# Altium schematic symbol library Signetik-passives.SchLib: 477 symbols (part 1 of 3)
Pins are listed as number, name and electrical type; pins without a type are passive.

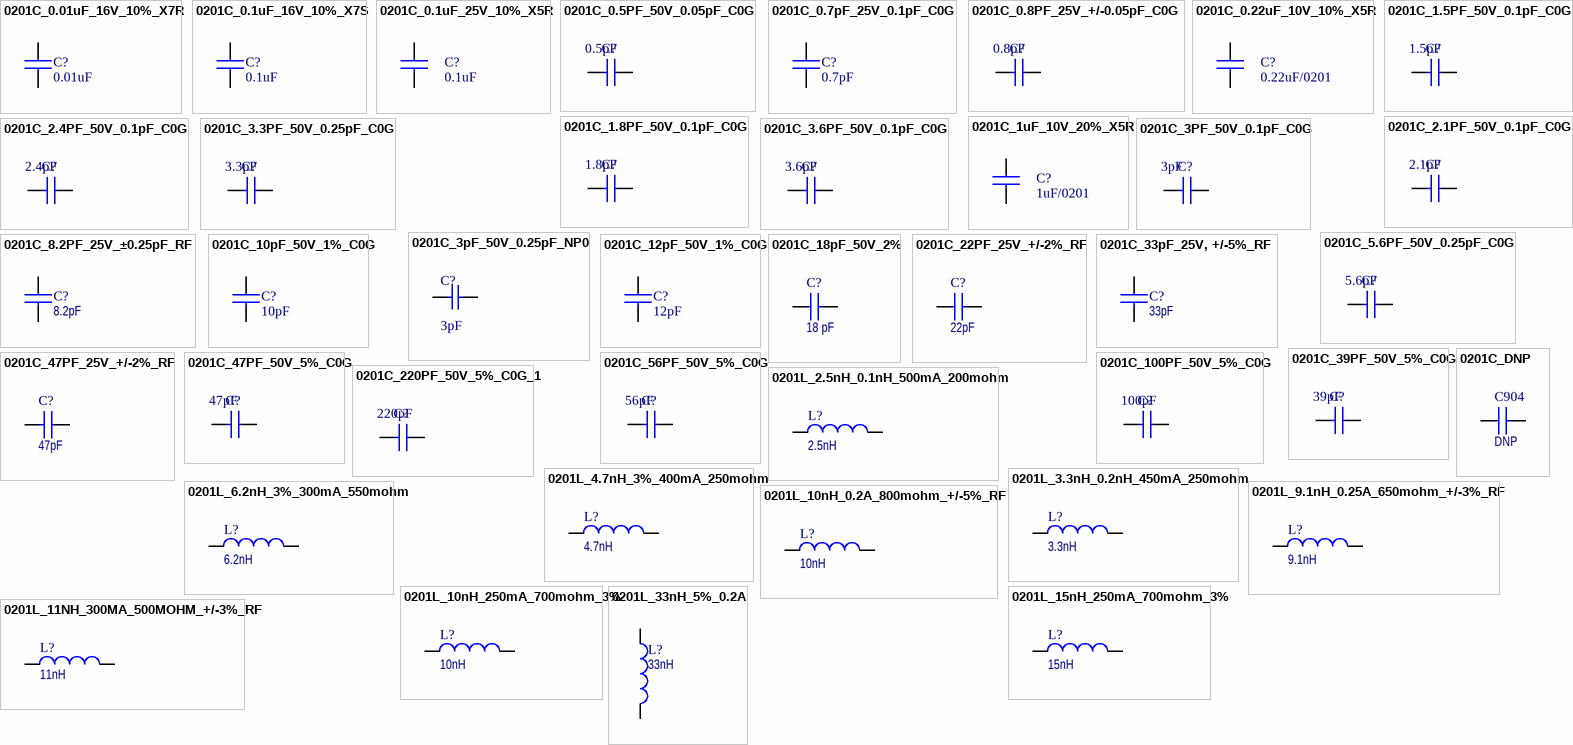
[diagram p0: symbols 0201C_0.01uF_16V_10%_X7R to 0201L_33nH_5%_0.2A]

## 0201C_0.01uF_16V_10%_X7R
designator C?, comment 0.01uF
Ceramic capacitor 0.01uF 16V 10% X7R 0201; MPN: CC0201KRX7R7BB103; Tolerance: +/-10%; TemperatureRange: -55 to +125 deg; Mfg: Yageo; Value: 0.01uF
footprint 0201_CAP_NP (0201 (0603 metric) SMD Capacitor)
pins: 1, 2

## 0201C_0.1uF_16V_10%_X7S
designator C?, comment 0.1uF
Ceramic capacitor 0.1uF 16V 10% X7S 0201; MPN: GRM033C71C104KE14D; Tolerance: +/-10%; TemperatureRange: -55 to +125 deg; Mfg: Murata; Value: 0.1uF
footprint 0201_CAP_NP (0201 (0603 metric) SMD Capacitor)
pins: 1, 2

## 0201C_0.1uF_25V_10%_X5R
designator C?, comment 0.1uF
Ceramic capacitor 0.1uF 25V 10% X5R 0201; MPN: GRM033R61E104ME14D; Tolerance: +/-10%; TemperatureRange: -55 to +85 deg; Mfg: Murata; Value: 0.1uF
footprint 0201_CAP_NP (0201 (0603 metric) SMD Capacitor)
pins: 1, 2

## 0201C_0.5PF_50V_0.05pF_C0G
designator C?, comment 0.5pF
0.5pF ±0.05pF 50V Ceramic Capacitor C0G, NP0 0201 (0603 Metric); MPN: GJM0335C1HR50WB01D; Tolerance: +/-0.1pF; TemperatureRange: -55 to +125 deg; Mfg: Murata; Value: 0.5pF
footprint 0201_CAP_NP (0201 (0603 metric) SMD Capacitor)
pins: 1, 2

## 0201C_0.7pF_25V_0.1pF_C0G
designator C?, comment 0.7pF
CAP CER 0.7PF 25V C0G/NP0 0201; MPN: GJM0335C1ER70BB01D; Tolerance: +/-1%; TemperatureRange: -55 to +125 deg; Mfg: Murata; Value: 0.7pF
footprint 0201_CAP_NP (0201 (0603 metric) SMD Capacitor)
pins: 1, 2

## 0201C_0.8PF_25V_+/-0.05pF_C0G
designator C?, comment 0.8pF
0.8pF ±0.05pF 25V Ceramic Capacitor C0G, NP0 0201 (0603 Metric); MPN: GJM0335C1ER80WB01D; Tolerance: +/-0.05pF; TemperatureRange: -55 to +125 deg; Mfg: Murata; Value: 0.8pF
footprint 0201_CAP_NP (0201 (0603 metric) SMD Capacitor)
pins: 1, 2

## 0201C_0.22uF_10V_10%_X5R
designator C?, comment 0.22uF/0201
CAP CER 0.22UF 10V X5R 0201; MPN: GRM033R61A224KE90D; Tolerance: +/-10%; TemperatureRange: -55 to +85 deg; Mfg: Murata; Value: 0.22uF/0201
footprint 0201_CAP_NP (0201 (0603 metric) SMD Capacitor)
pins: 1, 2

## 0201C_1.5PF_50V_0.1pF_C0G
designator C?, comment 1.5pF
CAP CER 1.5PF 50V +/-0.1pF C0G 0201; MPN: GJM0335C1H1R5BB01D; TemperatureRange: -55 to +125 deg; Mfg: Murata; Tolerance: +/-0.1pF; Value: 1.5pF
footprint 0201_CAP_NP (0201 (0603 metric) SMD Capacitor)
pins: 1, 2

## 0201C_1.8PF_50V_0.1pF_C0G
designator C?, comment 1.8pF
CAP CER 1.8PF 50V +/-0.1pF C0G 0201; MPN: GRM0335C1H1R8BA01D; TemperatureRange: -55 to +125 deg; Mfg: Murata; Tolerance: +/-0.1pF; Value: 1.8pF
footprint 0201_CAP_RF
pins: 1, 2

## 0201C_1uF_10V_20%_X5R
designator C?, comment 1uF/0201
0201 1 uF 10 V ±20% Tolerance X6S SMT Multilayer Ceramic Chip Capacitor; MPN: GRM033C81A105ME05D; Tolerance: +/-10%; TemperatureRange: -55 to +85 deg; Mfg: Murata; Value: 1uF/0201
footprint 0201_CAP_RF
pins: 1, 2

## 0201C_2.1PF_50V_0.1pF_C0G
designator C?, comment 2.1pF
CAP CER 2.1PF 50V +/-0.1pF C0G 0201; MPN: GJM0335C1H2R1BB01D; TemperatureRange: -55 to +125 deg; Mfg: Murata; Tolerance: +/-0.1pF; Value: 2.1pF
footprint 0201_CAP_NP (0201 (0603 metric) SMD Capacitor)
pins: 1, 2

## 0201C_2.4PF_50V_0.1pF_C0G
designator C?, comment 2.4pF
CAP CER 2.4PF 50V +/-0.1pF C0G 0201; MPN: GRM0335C1H2R4BA01D; TemperatureRange: -55 to +125 deg; Mfg: Murata; Tolerance: +/-0.1pF; Value: 2.4pF
footprint 0201_CAP_NP (0201 (0603 metric) SMD Capacitor)
pins: 1, 2

## 0201C_3.3PF_50V_0.25pF_C0G
designator C?, comment 3.3pF
CAP CER 3.3PF 25V C0G/NP0 0201; MPN: GRM0335C1E3R3CA01D; Tolerance: +/-0.1pF; TemperatureRange: -55 to +125 deg; Mfg: Murata; Value: 3.3pF
footprint 0201_CAP_RF
pins: 1, 2

## 0201C_3.6PF_50V_0.1pF_C0G
designator C?, comment 3.6pF
CAP CER 3.6PF 50V +/-0.1pF C0G 0201; MPN: GRM0335C1H3R6BA01D; TemperatureRange: -55 to +125 deg; Mfg: Murata; Tolerance: +/-0.1pF; Value: 3.6pF
footprint 0201_CAP_NP (0201 (0603 metric) SMD Capacitor)
pins: 1, 2

## 0201C_3PF_50V_0.1pF_C0G
designator C?, comment 3pF
CAP CER 3PF 50V +/-0.1pF C0G 0201; MPN: GRM0335C1H3R0BA01D; TemperatureRange: -55 to +125 deg; Mfg: Murata; Tolerance: +/-0.1pF; Value: 3pF
footprint 0201_CAP_RF
pins: 1, 2

## 0201C_3pF_50V_0.25pF_NP0
designator C?, comment 3pF
CAP CER 3PF 50V NP0 0201; MPN: GRM0335C1H3R0CA01D; Mfg: Murata; Unit Cost, Qty 1: $0.10; Unit Cost, Qty 500: $0.013; Value: 3pF
footprint 0201_CAP_RF
pins: 1, 2

## 0201C_5.6PF_50V_0.25pF_C0G
designator C?, comment 5.6pF
CAP CER 5.6PF 50V +/-0.025pF C0G 0201; MPN: GRM0335C1H5R6CA01D; Tolerance: +/-0.25pF; TemperatureRange: -55 to +125 deg; Mfg: Murata; Value: 5.6pF
footprint 0201_CAP_RF
pins: 1, 2

## 0201C_8.2PF_25V_±0.25pF_RF
designator C?, comment value 8.2pF  (hidden comment: CAP-NONPOL)
CAP CER 8.2PF 25V NP0 0201 Â±0.25pF; PartGroup: Capacitors,Ceramic,SMD 0201; MPN: 250R05L8R2CV4T; AN: A01-0681; TemperatureRange: -55Â°C ~ 125Â°C; Mfg: Johanson Technology; ComponentStatus: 'Active (verified)'; Status: Active; Verified by: Lars Helge Mo; Verified date: 2005-12-15; Tolerance: Â±0.25pF; FootprintStatus: 'Active (Verified)'
footprint 0201_CAP_NP (0201 (0603 metric) SMD Capacitor)
pins: 1, 2

## 0201C_10pF_50V_1%_C0G
designator C?, comment 10pF
Ceramic capacitor 10pF 50V 1% C0G 0201; MPN: GRM0335C1H100FA01; Tolerance: +/-1%; TemperatureRange: -55 to +125 deg; Mfg: Murata; Value: 10pF
footprint 0201_CAP_NP (0201 (0603 metric) SMD Capacitor)
pins: 1, 2

## 0201C_12pF_50V_1%_C0G
designator C?, comment 12pF
Ceramic capacitor 12pF 50V 1% C0G 0201; MPN: GRM0335C1H120FA01D; Tolerance: +/-1%; TemperatureRange: -55 to +125 deg; Mfg: Murata; Value: 12pF
footprint 0201_CAP_NP (0201 (0603 metric) SMD Capacitor)
pins: 1, 2

## 0201C_18pF_50V_2%
designator C?, comment value 18 pF  (hidden comment: CAP-NONPOL)
CAP CER 18PF 50V C0G/NP0 0201  +/- 2%; PartGroup: Capacitors,Ceramic,SMD 0201; MPN: GRM0335C1H180GA01D; AN: A01-0854; Tolerance: +/- 2%; TemperatureRange: -55 to +125 degrees C; Mfg: Murata; ComponentStatus: 'Active (verified)'; Status: Active; Verified by: Lars Helge Mo; Verified date: 2005-12-15; Height: 0.300000011920929; FootprintStatus: 'Active (Verified)'
footprint 0201_CAP_NP (0201 (0603 metric) SMD Capacitor)
pins: 1, 2

## 0201C_22PF_25V_+/-2%_RF
designator C?, comment value 22pF  (hidden comment: RF, Microwave, High Frequency)
CAP CER 22PF 25V C0G/NP0 0201 +/-2%; PartGroup: Capacitors,Ceramic,SMD 0201; MPN: 250R05L220GV4T; AN: A01-0830; TemperatureRange: -55 to +125 deg; Mfg: Johanson Technology; ComponentStatus: 'Active (verified)'; Status: Active; Verified by: Lars Helge Mo; Verified date: 2005-12-15; Tolerance: +/-2%; Height: 0.0130000002682209; FootprintStatus: 'Active (Verified)'
footprint 0201_CAP_NP (0201 (0603 metric) SMD Capacitor)
pins: 1, 2

## 0201C_33pF_25V, +/-5%_RF
designator C?, comment value 33pF  (hidden comment: CAP-NONPOL)
Ceramic capacitor, SMD 0201, C0G/NP0, 25V, +/-5%; PartGroup: Capacitors,Ceramic,SMD 0201; MPN: 250R05L330JV4T; AN: A01-0831; Tolerance: +/-5\%; TemperatureRange: -55 to +125 deg; Mfg: Johanson Technology; ComponentStatus: 'Active (verified)'; Status: Active; Verified by: Lars Helge Mo; Verified date: 2005-12-15; Height: 0.0130000002682209; FootprintStatus: 'Active (Verified)'
footprint 0201_CAP_NP (0201 (0603 metric) SMD Capacitor)
pins: 1, 2

## 0201C_39PF_50V_5%_C0G
designator C?, comment 39pF
CAP CER 39PF 50V C0G 5% 0201; MPN: GRM0335C1H390JA01D; Tolerance: +/-5%; TemperatureRange: -55 to +125 deg; Mfg: Murata; Value: 39pF
footprint 0201_CAP_RF
pins: 1, 2

## 0201C_47PF_25V_+/-2%_RF
designator C?, comment value 47pF  (hidden comment: RF, Microwave, High Frequency)
CAP CER 47PF 25V C0G/NP0 0201 +/-2%; PartGroup: Capacitors,Ceramic,SMD 0201; MPN: 250R05L470GV4T; AN: A01-0825; TemperatureRange: -55 to +125 deg; Mfg: Johanson Technology; ComponentStatus: 'New (not verified)'; Status: Active; Verified by: Lars Helge Mo; Verified date: 2005-12-15; Tolerance: +/-2%; Height: 0.0130000002682209; FootprintStatus: 'Active (Verified)'
footprint 0201_CAP_NP (0201 (0603 metric) SMD Capacitor)
pins: 1, 2

## 0201C_47PF_50V_5%_C0G
designator C?, comment 47pF
CAP CER 47PF 50V C0G 5% 0201; MPN: GRM0335C1H470JA01D; Tolerance: +/-5%; TemperatureRange: -55 to +125 deg; Mfg: Murata; Value: 47pF
footprint 0201_CAP_NP (0201 (0603 metric) SMD Capacitor)
pins: 1, 2

## 0201C_56PF_50V_5%_C0G
designator C?, comment 56pF
CAP CER 56PF 50V C0G 5% 0201; MPN: GRM0335C1H560JA01D; Tolerance: +/-5%; TemperatureRange: -55 to +125 deg; Mfg: Murata; Value: 56pF
footprint 0201_CAP_NP (0201 (0603 metric) SMD Capacitor)
pins: 1, 2

## 0201C_100PF_50V_5%_C0G
designator C?, comment 100pF
CAP CER 100PF 50V C0G 5% 0201; MPN: GRM0335C1H101JA01D; Tolerance: +/-5%; TemperatureRange: -55 to +125 deg; Mfg: Murata; Value: 100pF
footprint 0201_CAP_NP (0201 (0603 metric) SMD Capacitor)
pins: 1, 2

## 0201C_220PF_50V_5%_C0G_1
designator C?, comment 220pF
CAP CER 220PF 50V C0G 5% 0201; MPN: GRM0335C1H221JA01D; Tolerance: +/-5%; TemperatureRange: -55 to +125 deg; Mfg: Murata; Value: 220pF
footprint 0201_CAP_NP (0201 (0603 metric) SMD Capacitor)
pins: 1, 2

## 0201C_DNP
designator C904, comment value DNP  (hidden comment: CAP-NONPOL)
Capacitor 0201 Do Not Fit; PartGroup: Capacitors,Ceramic,SMD 0201; AN: A01-0833; ComponentStatus: 'Active (verified)'; Populate: DNP; Status: Active; Verified by: Lars Helge Mo; Verified date: 2005-12-15; FootprintStatus: 'Active (Verified)'
footprint 0201_CAP_RF
pins: 1, 2

## 0201L_2.5nH_0.1nH_500mA_200mohm
designator L?, comment value 2.5nH  (hidden comment: INDUCTOR)
FIXED IND 2.5NH 500MA 200 MOHM; PartGroup: Inductors,RF,SMD 0201; MPN: LQP03TN2N5B02D; AN: A03-0303; Tolerance: +/-3%; TemperatureRange: -55 to +125C; Mfg: Murata Electronics; ComponentStatus: 'New (not verified)'; Verified date: 2006-01-30; Verified by: Lars Helge Mo; Status: Active; Height: 0.0130000002682209; FootprintStatus: 'Active (Verified)'
footprint 0201_IND_RF
pins: 1, 2

## 0201L_3.3nH_0.2nH_450mA_250mohm
designator L?, comment value 3.3nH  (hidden comment: INDUCTOR)
3.3nH Unshielded Thick Film Inductor 450mA 250mOhm Max 0201 (0603 Metric); PartGroup: Inductors,RF,SMD 0201; MPN: LQP03TN3N3C02D; AN: A03-0303; Tolerance: +/-3%; TemperatureRange: -55 to +125C; Mfg: Murata Electronics; ComponentStatus: 'New (not verified)'; Verified date: 2006-01-30; Verified by: Lars Helge Mo; Status: Active; Height: 0.0130000002682209; FootprintStatus: 'Active (Verified)'
footprint 0201_IND_RF
pins: 1, 2

## 0201L_4.7nH_3%_400mA_250mohm
designator L?, comment value 4.7nH  (hidden comment: INDUCTOR)
4.7nH Unshielded Thick Film Inductor 400mA 250mOhm Max 0201 (0603 Metric); PartGroup: Inductors,RF,SMD 0201; MPN: LQP03HQ4N7H02D; AN: A03-0303; Tolerance: +/-3%; TemperatureRange: -55 to +125C; Mfg: Murata Electronics; ComponentStatus: 'New (not verified)'; Verified date: 2006-01-30; Verified by: Lars Helge Mo; Status: Active; Height: 0.0130000002682209; FootprintStatus: 'Active (Verified)'
footprint 0201_IND_RF
pins: 1, 2

## 0201L_6.2nH_3%_300mA_550mohm
designator L?, comment value 6.2nH  (hidden comment: INDUCTOR)
6.2nH Unshielded Thick Film Inductor 300mA 550mOhm Max 0201 (0603 Metric); PartGroup: Inductors,RF,SMD 0201; MPN: LQP03TQ6N2H02D; AN: A03-0303; Tolerance: +/-3%; TemperatureRange: -55 to +125C; Mfg: Murata Electronics; ComponentStatus: 'New (not verified)'; Verified date: 2006-01-30; Verified by: Lars Helge Mo; Status: Active; Height: 0.0130000002682209; FootprintStatus: 'Active (Verified)'
footprint 0201_IND_RF
pins: 1, 2

## 0201L_9.1nH_0.25A_650mohm_+/-3%_RF
designator L?, comment value 9.1nH  (hidden comment: INDUCTOR)
FIXED IND 9.1NH 250MA 650 MOHM; PartGroup: Inductors,RF,SMD 0201; MPN: LQP03TQ9N1H02D; AN: A03-0303; Tolerance: +/-5%; TemperatureRange: -55 to +125C; Mfg: Murata Electronics; ComponentStatus: 'New (not verified)'; Verified date: 2006-01-30; Verified by: Lars Helge Mo; Status: Active; Height: 0.0130000002682209; FootprintStatus: 'Active (Verified)'
footprint 0201_IND_RF
pins: 1, 2

## 0201L_10nH_0.2A_800mohm_+/-5%_RF
designator L?, comment value 10nH  (hidden comment: INDUCTOR)
RF Inductor, 10nH, +/-5%, Irms=0.2A, Q=6@300Mhz, DCR=0.8(Max), SMD, 0201; PartGroup: Inductors,RF,SMD 0201; MPN: MLK0603L10NJT000; AN: A03-0303; TemperatureRange: -55 to +125C; Mfg: tdk; ComponentStatus: 'New (not verified)'; Verified date: 2006-01-30; Verified by: Lars Helge Mo; Status: Active; Tolerance: +/-5%; Height: 0.0130000002682209; FootprintStatus: 'Active (Verified)'
footprint 0201_IND_RF
pins: 1, 2

## 0201L_10nH_250mA_700mohm_3%
designator L?, comment value 10nH  (hidden comment: INDUCTOR)
FIXED IND 10NH 250MA 700 MOHM, +-3%, 0201; PartGroup: Inductors,RF,SMD 0201; MPN: LQP03TN10NH02D; AN: A03-0320; TemperatureRange: -55Â°C ~ 125Â°C; Mfg: Murata; ComponentStatus: 'Active (verified)'; Verified date: 2006-01-30; Verified by: Lars Helge Mo; Status: Active; Tolerance: +-3%; FootprintStatus: 'Active (Verified)'
footprint 0201_IND_RF
pins: 1, 2

## 0201L_11NH_300MA_500MOHM_+/-3%_RF
designator L?, comment value 11nH  (hidden comment: From Murata: LQP03HQ11NH02)
FIXED IND 11NH 300MA 500 MOHM  0201 +/-3%; PartGroup: Inductors,RF,SMD 0201; AN: A03-0311; Mfg: Murata; ComponentStatus: 'Active (verified)'; Verified date: 2006-01-30; Verified by: Lars Helge Mo; Status: Active; Tolerance: +/-3%; Height: 0.421999990940094; MPN: LQP03HQ11NH02; FootprintStatus: 'Active (Verified)'
footprint 0201_IND_RF
pins: 1, 2

## 0201L_15nH_250mA_700mohm_3%
designator L?, comment value 15nH  (hidden comment: INDUCTOR)
FIXED IND 15NH 250MA 700 MOHM,0201; PartGroup: Inductors,RF,SMD 0201; MPN: LQP03TN15NH02D; AN: A03-0320; Tolerance: +-3%; TemperatureRange: -55Â°C ~ 125Â°C; Mfg: Murata; ComponentStatus: 'Active (verified)'; Verified date: 2006-01-30; Verified by: Lars Helge Mo; Status: Active; FootprintStatus: 'Active (Verified)'
footprint 0201_IND_RF
pins: 1, 2

## 0201L_33nH_5%_0.2A
designator L?, comment value 33nH  (hidden comment: INDUCTOR)
RF Inductor, 33nH, +/-5%, Irms=0.2A, Q=5@100Mhz, DCR=2.3(Max), SMD, 0201; PartGroup: Inductors,RF,SMD 0201; MPN: L-05B33NJV6T; AN: A03-0304; TemperatureRange: -40 to +125C; Mfg: Johanson Technology; ComponentStatus: 'New (not verified)'; Verified date: 2006-01-30; Verified by: Lars Helge Mo; Status: Active; Tolerance: +/-5%; Height: 0.0130000002682209; FootprintStatus: 'Active (Verified)'
footprint 0201_IND_RF
pins: 1, 2

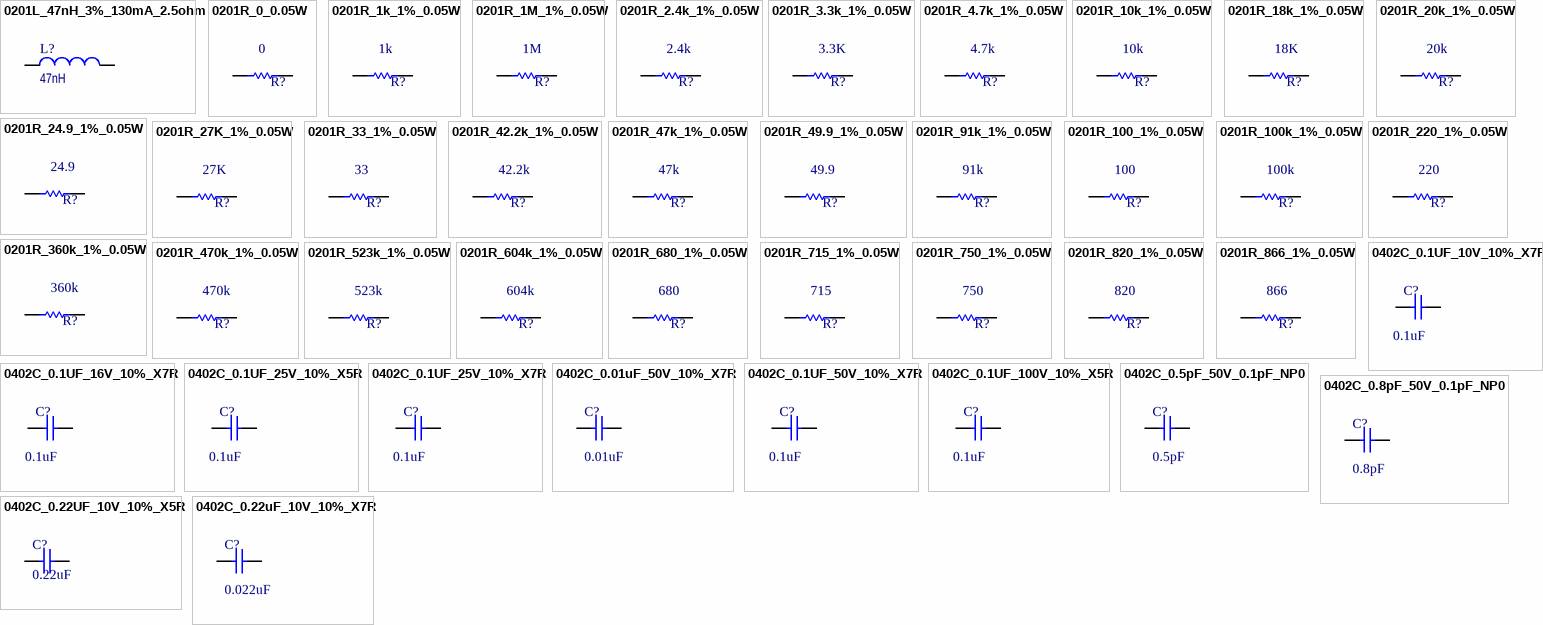
[diagram p1: symbols 0201L_47nH_3%_130mA_2.5ohm to 0402C_0.22uF_10V_10%_X7R]

## 0201L_47nH_3%_130mA_2.5ohm
designator L?, comment value 47nH  (hidden comment: INDUCTOR)
FIXED IND 47NH 130MA 2.5 OHM SMD; PartGroup: Inductors,RF,SMD 0201; MPN: LQP03HQ47NH02D; AN: A03-0303; Tolerance: +/-3%; TemperatureRange: -55 to +125C; Mfg: Murata Electronics; ComponentStatus: 'New (not verified)'; Verified date: 2006-01-30; Verified by: Lars Helge Mo; Status: Active; Height: 0.0130000002682209; FootprintStatus: 'Active (Verified)'
footprint 0201_IND_RF
pins: 1, 2

## 0201R_0_0.05W
designator R?, comment 0
Chip Resistor 0 Ohms 0.05W 0201; MPN: RC0201JR-070RL; Tolerance: +/-1%; TemperatureRange: -55 to +125C; Mfg: Yageo; Value: 0
footprint 0201_RES (0201 (0603 metric) SMD Resistor)
pins: 1, 2

## 0201R_1k_1%_0.05W
designator R?, comment 1k
Chip Resistor 1k Ohms ±1% 0.05W 0201; MPN: ERJ-1GNF1001C; Tolerance: +/-1%; TemperatureRange: -55 to +125C; Mfg: Panasonic; Value: 1k
footprint 0201_RES (0201 (0603 metric) SMD Resistor)
pins: 1, 2

## 0201R_1M_1%_0.05W
designator R?, comment 1M
Chip Resistor 1M Ohms ±1% 0.05W 0201; MPN: RC0201FR-071ML; Tolerance: +/-1%; TemperatureRange: -55 to +125C; Mfg: Yageo; Value: 1M
footprint 0201_RES (0201 (0603 metric) SMD Resistor)
pins: 1, 2

## 0201R_2.4k_1%_0.05W
designator R?, comment 2.4k
Chip Resistor 2.4k Ohms ±1% 0.05W 0201; MPN: ERJ-1GNF2401C; Tolerance: +/-1%; TemperatureRange: -55 to +125C; Mfg: Panasonic; Value: 2.4k
footprint 0201_RES (0201 (0603 metric) SMD Resistor)
pins: 1, 2

## 0201R_3.3k_1%_0.05W
designator R?, comment 3.3K
RES 3.3K OHM 1% 1/20W 0201; MPN: RC0201FR-073K3L; Tolerance: +/-1%; TemperatureRange: -55 to +125C; Mfg: Yageo; Value: 3.3K
footprint 0201_RES (0201 (0603 metric) SMD Resistor)
pins: 1, 2

## 0201R_4.7k_1%_0.05W
designator R?, comment 4.7k
Chip Resistor 4.7k Ohms ±1% 0.05W 0201; MPN: RMCF0201FT4K70; Tolerance: +/-1%; TemperatureRange: -55 to +125C; Mfg: Stackpole; Value: 4.7k
footprint 0201_RES (0201 (0603 metric) SMD Resistor)
pins: 1, 2

## 0201R_10k_1%_0.05W
designator R?, comment 10k
Chip Resistor 10k Ohms ±1% 0.05W 0201; MPN: RC0201FR-0710KL; Tolerance: +/-1%; TemperatureRange: -55 to +125C; Mfg: Yageo; Value: 10k
footprint 0201_RES (0201 (0603 metric) SMD Resistor)
pins: 1, 2

## 0201R_18k_1%_0.05W
designator R?, comment 18K
18 kOhms ±1% 0.05W, 1/20W Chip Resistor 0201 (0603 Metric) Thick Film; MPN: RC0201FR-0718KP; Tolerance: +/-1%; TemperatureRange: -55 to +125C; Mfg: Yageo; Value: 18K
footprint 0201_RES (0201 (0603 metric) SMD Resistor)
pins: 1, 2

## 0201R_20k_1%_0.05W
designator R?, comment 20k
Chip Resistor 20k Ohms ±1% 0.05W 0201; MPN: RC0201FR-0720KL; Tolerance: +/-1%; TemperatureRange: -55 to +125C; Mfg: Yageo; Value: 20k
footprint 0201_RES (0201 (0603 metric) SMD Resistor)
pins: 1, 2

## 0201R_24.9_1%_0.05W
designator R?, comment 24.9
24.9 Ohms ±1% 0.05W, 1/20W Chip Resistor 0201 (0603 Metric) Moisture Resistant Thick Film; MPN: RC0201FR-0724R9L; Tolerance: +/-1%; TemperatureRange: -55 to +125C; Mfg: YAGEO; Value: 24.9
footprint 0201_RES (0201 (0603 metric) SMD Resistor)
pins: 1, 2

## 0201R_27K_1%_0.05W
designator R?, comment 27K
RES 27K OHM 5% 1/20W 0201; MPN: RC0201JR-0727KP; Tolerance: +/-1%; TemperatureRange: -55 to +125C; Mfg: Yageo; Value: 27K
footprint 0201_RES (0201 (0603 metric) SMD Resistor)
pins: 1, 2

## 0201R_33_1%_0.05W
designator R?, comment 33
Chip Resistor 33 Ohms ±1% 0.05W 0201; MPN: CRCW020133R0FNED; Tolerance: +/-1%; TemperatureRange: -55 to +125C; Mfg: Vishay Dale; Value: 33
footprint 0201_RES (0201 (0603 metric) SMD Resistor)
pins: 1, 2

## 0201R_42.2k_1%_0.05W
designator R?, comment 42.2k
Chip Resistor 42.2k Ohms ±1% 0.05W 0201; MPN: ERJ-1GNF4222C; Tolerance: +/-1%; TemperatureRange: -55 to +125C; Mfg: Panasonic; Value: 42.2k
footprint 0201_RES (0201 (0603 metric) SMD Resistor)
pins: 1, 2

## 0201R_47k_1%_0.05W
designator R?, comment 47k
Chip Resistor 47k Ohms ±1% 0.05W 0201; MPN: ERJ-1GNF4702C; Tolerance: +/-1%; TemperatureRange: -55 to +125C; Mfg: Panasonic; Value: 47k
footprint 0201_RES (0201 (0603 metric) SMD Resistor)
pins: 1, 2

## 0201R_49.9_1%_0.05W
designator R?, comment 49.9
49.9 Ohms ±0.1% 0.05W, 1/20W Chip Resistor 0201 (0603 Metric) Thin Film; MPN: RT0201BRD0749R9L; Tolerance: +/-1%; TemperatureRange: -55 to +125C; Mfg: YAGEO; Value: 49.9
footprint 0201_RES (0201 (0603 metric) SMD Resistor)
pins: 1, 2

## 0201R_91k_1%_0.05W
designator R?, comment 91k
Chip Resistor 91k Ohms ±1% 0.05W 0201; MPN: ERJ-1GNF9102C; Tolerance: +/-1%; TemperatureRange: -55 to +125C; Mfg: Panasonic; Value: 91k
footprint 0201_RES (0201 (0603 metric) SMD Resistor)
pins: 1, 2

## 0201R_100_1%_0.05W
designator R?, comment 100
Chip Resistor 100 Ohms ±1% 0.05W 0201; MPN: RC0201FR-07100RL; Tolerance: +/-1%; TemperatureRange: -55 to +125C; Mfg: Yageo; Value: 100
footprint 0201_RES (0201 (0603 metric) SMD Resistor)
pins: 1, 2

## 0201R_100k_1%_0.05W
designator R?, comment 100k
Chip Resistor 100k Ohms ±1% 0.05W 0201; MPN: RC0201FR-07100KL; Tolerance: +/-1%; TemperatureRange: -55 to +125C; Mfg: Yageo; Value: 100k
footprint 0201_RES (0201 (0603 metric) SMD Resistor)
pins: 1, 2

## 0201R_220_1%_0.05W
designator R?, comment 220
Chip Resistor 220 Ohms ±1% 0.05W 0201; MPN: RC0201FR-07220RL; Tolerance: +/-1%; TemperatureRange: -55 to +125C; Mfg: Yageo; Value: 220
footprint 0201_RES (0201 (0603 metric) SMD Resistor)
pins: 1, 2

## 0201R_360k_1%_0.05W
designator R?, comment 360k
Chip Resistor 360k Ohms ±1% 0.05W 0201; MPN: ERJ-1GNF3603C; Tolerance: +/-1%; TemperatureRange: -55 to +125C; Mfg: Panasonic Electronic Components; Value: 360k
footprint 0201_RES (0201 (0603 metric) SMD Resistor)
pins: 1, 2

## 0201R_470k_1%_0.05W
designator R?, comment 470k
Chip Resistor 470k Ohms ±1% 0.05W 0201; MPN: RC0201FR-07470KL; Tolerance: +/-1%; TemperatureRange: -55 to +125C; Mfg: Yageo; Value: 470k
footprint 0201_RES (0201 (0603 metric) SMD Resistor)
pins: 1, 2

## 0201R_523k_1%_0.05W
designator R?, comment 523k
Chip Resistor 523k Ohms ±1% 0.05W 0201; MPN: ERJ-1GNF5233C; Tolerance: +/-1%; TemperatureRange: -55 to +125C; Mfg: Panasonic; Value: 523k
footprint 0201_RES (0201 (0603 metric) SMD Resistor)
pins: 1, 2

## 0201R_604k_1%_0.05W
designator R?, comment 604k
Chip Resistor 604k Ohms ±1% 0.05W 0201; MPN: ERJ-1GNF6043C; Tolerance: +/-1%; TemperatureRange: -55 to +125C; Mfg: Panasonic; Value: 604k
footprint 0201_RES (0201 (0603 metric) SMD Resistor)
pins: 1, 2

## 0201R_680_1%_0.05W
designator R?, comment 680
Chip Resistor 680 Ohms ±1% 0.05W 0201; MPN: ERJ-1GNF6800C; Tolerance: +/-1%; TemperatureRange: -55 to +125C; Mfg: Panasonic; Value: 680
footprint 0201_RES (0201 (0603 metric) SMD Resistor)
pins: 1, 2

## 0201R_715_1%_0.05W
designator R?, comment 715
Chip Resistor 715 Ohms ±1% 0.05W 0201; MPN: ERJ-1GNF7150C; Tolerance: +/-1%; TemperatureRange: -55 to +125C; Mfg: Panasonic; Value: 715
footprint 0201_RES (0201 (0603 metric) SMD Resistor)
pins: 1, 2

## 0201R_750_1%_0.05W
designator R?, comment 750
Chip Resistor 750 Ohms ±1% 0.05W 0201; MPN: ERJ-1GNF7500C; Tolerance: +/-1%; TemperatureRange: -55 to +125C; Mfg: Panasonic; Value: 750
footprint 0201_RES (0201 (0603 metric) SMD Resistor)
pins: 1, 2

## 0201R_820_1%_0.05W
designator R?, comment 820
Chip Resistor 820 Ohms ±1% 0.05W 0201; MPN: ERJ-1GNF8200C; Tolerance: +/-1%; TemperatureRange: -55 to +125C; Mfg: Panasonic; Value: 820
footprint 0201_RES (0201 (0603 metric) SMD Resistor)
pins: 1, 2

## 0201R_866_1%_0.05W
designator R?, comment 866
Chip Resistor 866 Ohms ±1% 0.05W 0201; MPN: RC0201FR-07866RL; Tolerance: +/-1%; TemperatureRange: -55 to +125C; Mfg: Yageo; Value: 866
footprint 0201_RES (0201 (0603 metric) SMD Resistor)
pins: 1, 2

## 0402C_0.1UF_10V_10%_X7R
designator C?, comment 0.1uF
Cap Ceramic 0.1uF 10V X7R 10% Pad SMD 0402 125¡ãC T/R / CAP CER 0.1UF 10V X7R 0402; MPN: GRM155R71A104KA01D; Mfg: Murata Electronics; Unit Cost, Qty 1: $0.10; Unit Cost, Qty 10,000: $0.00652; Unit Cost, Qty 500: $0.01252; Value: 0.1uF
footprint 0402_CAP_NP (0402 (1005) SMD Capacitor)
pins: 1, 2

## 0402C_0.1UF_16V_10%_X7R
designator C?, comment 0.1uF
CAP CER 0.1UF 16V X7R 0402; MPN: GRM155R71C104KA88D; Mfg: Murata Electronics; Tolerance: ±10%; TemperatureRange: -55°C ~ 125°C; Value: 0.1uF
footprint 0402_CAP_NP (0402 (1005) SMD Capacitor)
pins: 1, 2

## 0402C_0.1UF_25V_10%_X5R
designator C?, comment 0.1uF
Ceramic Cap 0.10µF ±10% 25V X5R 0402; MPN: TMK105BJ104KV-F; Mfg: Taiyo Yuden; Unit Cost, Qty 1: $0.10; Unit Cost, Qty 10,000: $0.00652; Unit Cost, Qty 500: $0.01252; Value: 0.1uF
footprint 0402_CAP_NP (0402 (1005) SMD Capacitor)
pins: 1, 2

## 0402C_0.1UF_25V_10%_X7R
designator C?, comment 0.1uF
CAP CER 0.1UF 25V X7R 0402; MPN: 04023C104KAT2A; Mfg: AVX; Unit Cost, Qty 1: $0.12; Unit Cost, Qty 500: $0.02758; Value: 0.1uF
footprint 0402_CAP_NP (0402 (1005) SMD Capacitor)
pins: 1, 2

## 0402C_0.01uF_50V_10%_X7R
designator C?, comment 0.01uF
Ceramic Capacitor 0.01uF ±10% 50V X7R 0402; MPN: GRM155R71H103KA88D; Mfg: Murata; Unit Cost, Qty 1: $0.10; Unit Cost, Qty 500: $0.0047; Value: 0.01uF
footprint 0402_CAP_NP (0402 (1005) SMD Capacitor)
pins: 1, 2

## 0402C_0.1UF_50V_10%_X7R
designator C?, comment 0.1uF
0.1 µF ±10% 50V Ceramic Capacitor X7R 0402 (1005 Metric); MPN: GRM155R71H104KE14D; Mfg: Murata Electronics; Unit Cost, Qty 1: $0.10; Unit Cost, Qty 10,000: $0.00652; Unit Cost, Qty 500: $0.01252; Value: 0.1uF
footprint 0402_CAP_NP (0402 (1005) SMD Capacitor)
pins: 1, 2

## 0402C_0.1UF_100V_10%_X5R
designator C?, comment 0.1uF
CAP CER 0.1UF 100V X5R 0402; MPN: GRM155R62A104KE14D; Mfg: Murata Electronics; Unit Cost, Qty 1: $0.10; Unit Cost, Qty 10,000: $0.00652; Unit Cost, Qty 500: $0.01252; Value: 0.1uF
footprint 0402_CAP_NP (0402 (1005) SMD Capacitor)
pins: 1, 2

## 0402C_0.5pF_50V_0.1pF_NP0
designator C?, comment 0.5pF
CAP CER 0.5PF 50V C0G/NP0 0402; MPN: CL05C0R5BB5NNNC; Mfg: Samsung Electro-Mechanics; Unit Cost, Qty 1: $0.10; Unit Cost, Qty 500: $0.013; Value: 0.5pF
footprint 0402_CAP_NP (0402 (1005) SMD Capacitor)
pins: 1, 2

## 0402C_0.8pF_50V_0.1pF_NP0
designator C?, comment 0.8pF
Ceramic Capacitor 1.5pF ±0.1pF 50V C0G 0402; MPN: GRM1555C1HR80CA01D; Mfg: Murata; Unit Cost, Qty 1: $0.10; Unit Cost, Qty 500: $0.013; Value: 0.8pF
footprint 0402_CAP_NP (0402 (1005) SMD Capacitor)
pins: 1, 2

## 0402C_0.22UF_10V_10%_X5R
designator C?, comment 0.22uF
Ceramic Cap 0.22µF ±10% 10V X5R 0402; MPN: 0402ZD224KAT2A; Mfg: AVX; Unit Cost, Qty 1: $0.10; Unit Cost, Qty 500: $0.0199; Value: 0.22uF
footprint 0402_CAP_NP (0402 (1005) SMD Capacitor)
pins: 1, 2

## 0402C_0.22uF_10V_10%_X7R
designator C?, comment 0.022uF
CAP CER 0.22UF 10V X7R 0402; ALT MPN: C1005X7R1A224K050BB; MPN: C1005X5R0J224K050BB; ALT Mfg: TDK Corporation; TemperatureRange: -55°C ~ 85°C; Tolerance: ±10%; Mfg: TDK Corporation; Value: 0.022uF
footprint 0402_CAP_NP (0402 (1005) SMD Capacitor)
pins: 1, 2

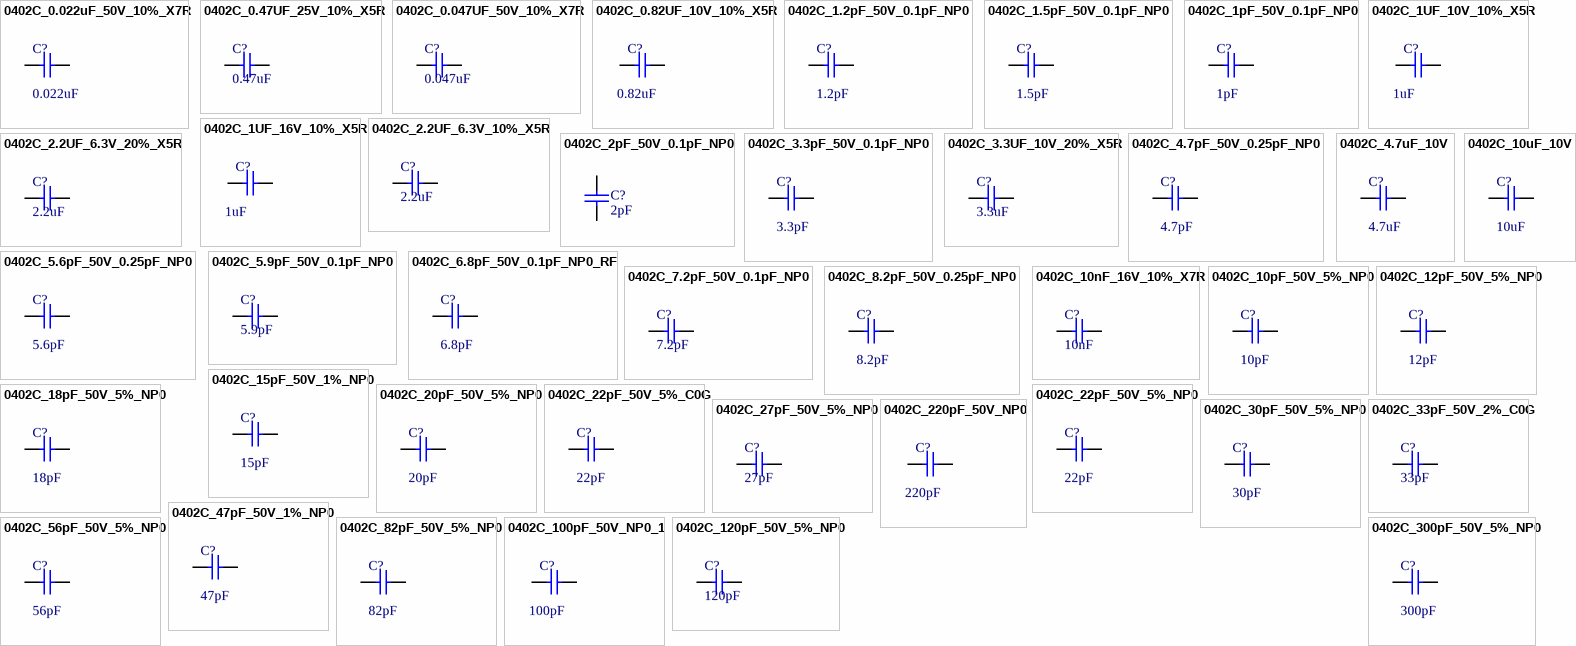
[diagram p2: symbols 0402C_0.022uF_50V_10%_X7R to 0402C_300pF_50V_5%_NP0]

## 0402C_0.022uF_50V_10%_X7R
designator C?, comment 0.022uF
Ceramic Capacitor 0.022uF ±10% 50V X7R 0402; MPN: GRM155R71H223KA12D; Mfg: Murata; Unit Cost, Qty 1: $0.10; Unit Cost, Qty 500: $0.0068; Value: 0.022uF
footprint 0402_CAP_NP (0402 (1005) SMD Capacitor)
pins: 1, 2

## 0402C_0.47UF_25V_10%_X5R
designator C?, comment 0.47uF
Ceramic Cap 0.47µF ±10% 25V X5R 0402; MPN: GRT155R61E474KE01D; Mfg: Murata; Unit Cost, Qty 1: $0.12; Unit Cost, Qty 500: $0.028; Value: 0.47uF
footprint 0402_CAP_NP (0402 (1005) SMD Capacitor)
pins: 1, 2

## 0402C_0.047UF_50V_10%_X7R
designator C?, comment 0.047uF
Ceramic Cap 0.047µF ±10% 50V X7R 0402; MPN: GRM155R71H473KE14D; Mfg: Murata; Unit Cost, Qty 1: $0.10; Unit Cost, Qty 500: $0.013; Value: 0.047uF
footprint 0402_CAP_NP (0402 (1005) SMD Capacitor)
pins: 1, 2

## 0402C_0.82UF_10V_10%_X5R
designator C?, comment 0.82uF
CAP CER 0.82UF 10V X5R 0402; MPN: CC0402KRX5R6BB824; Mfg: Yageo; Unit Cost, Qty 1: $0.16; Unit Cost, Qty 500: $0.038; Value: 0.82uF
footprint 0402_CAP_NP (0402 (1005) SMD Capacitor)
pins: 1, 2

## 0402C_1.2pF_50V_0.1pF_NP0
designator C?, comment value 1.2pF  (hidden comment: 1.5pF)
Ceramic Capacitor 1.2pF ±0.1pF 50V C0G 0402; MPN: GRM1555C1H1R2BA01D; Mfg: Murata; Unit Cost, Qty 1: $0.10; Unit Cost, Qty 500: $0.013
footprint 0402_CAP_NP (0402 (1005) SMD Capacitor)
pins: 1, 2

## 0402C_1.5pF_50V_0.1pF_NP0
designator C?, comment 1.5pF
Ceramic Capacitor 1.5pF ±0.1pF 50V C0G 0402; MPN: GRM1555C1H1R5BA01D; Mfg: Murata; Unit Cost, Qty 1: $0.10; Unit Cost, Qty 500: $0.013; Value: 1.5pF
footprint 0402_CAP_NP (0402 (1005) SMD Capacitor)
pins: 1, 2

## 0402C_1pF_50V_0.1pF_NP0
designator C?, comment 1pF
CAP CER 1PF 50V C0G/NP0 0402; MPN: 500R07S1R0BV4T; Mfg: Johanson Technology Inc.; Unit Cost, Qty 1: $0.10; Unit Cost, Qty 500: $0.013; Value: 1pF
footprint 0402_CAP_NP (0402 (1005) SMD Capacitor)
pins: 1, 2

## 0402C_1UF_10V_10%_X5R
designator C?, comment 1uF
CAP CER 1UF 10V X5R 0402; ALT MPN: EMK105BJ105KV-F; MPN: GRM155R61A105KE15D; ALT Mfg: Taiyo Yuden; Mfg: Murata; Tolerance: ±10%; TemperatureRange: -55°C ~ 85°C; Value: 1uF
footprint 0402_CAP_NP (0402 (1005) SMD Capacitor)
pins: 1, 2

## 0402C_1UF_16V_10%_X5R
designator C?, comment 1uF
CAP CER 1UF 16V X5R 0402 ±10%; MPN: EMK105BJ105KV-F; Mfg: Taiyo Yuden; Unit Cost, Qty 1: $0.14; Unit Cost, Qty 500: $0.034; Value: 1uF
footprint 0402_CAP_NP (0402 (1005) SMD Capacitor)
pins: 1, 2

## 0402C_2.2UF_6.3V_10%_X5R
designator C?, comment 2.2uF
CAP CER 2.2UF 6.3V X5R ±10% 0402; MPN: GRM155R60J225KE95D; Mfg: Murata; Unit Cost, Qty 1: $0.13; Unit Cost, Qty 500: $0.03126; Value: 2.2uF
footprint 0402_CAP_NP (0402 (1005) SMD Capacitor)
pins: 1, 2

## 0402C_2.2UF_6.3V_20%_X5R
designator C?, comment 2.2uF
CAP CER 2.2UF 6.3V X5R 0402; MPN: JMK105BJ225MV-F; Mfg: Taiyo Yuden; TemperatureRange: -55°C ~ 85°C; Tolerance: ±20%; Value: 2.2uF
footprint 0402_CAP_NP (0402 (1005) SMD Capacitor)
pins: 1, 2

## 0402C_2pF_50V_0.1pF_NP0
designator C?, comment 2pF
CAP CER 2PF 50V C0G/NP0 0402; MPN: 500R07S2R0BV4T; Mfg: Johanson Technology Inc.; Unit Cost, Qty 1: $0.10; Unit Cost, Qty 500: $0.013; Value: 2pF
footprint 0402_CAP_NP (0402 (1005) SMD Capacitor)
pins: 1, 2

## 0402C_3.3pF_50V_0.1pF_NP0
designator C?, comment 3.3pF
Ceramic Capacitor 3.3pF ±0.1pF 50V C0G 0402; MPN: GRM1555C1H3R3BA01D; Mfg: Murata; Unit Cost, Qty 1: $0.10; Unit Cost, Qty 500: $0.013; Value: 3.3pF
footprint 0402_CAP_NP (0402 (1005) SMD Capacitor)
pins: 1, 2

## 0402C_3.3UF_10V_20%_X5R
designator C?, comment 3.3uF
CAP CER 3.3UF 10V X5R 0402; MPN: C1005X5R1A335M050BC; Mfg: TDK Corporation; Unit Cost, Qty 1: $0.13; Unit Cost, Qty 500: $0.03126; Value: 3.3uF
footprint 0402_CAP_NP (0402 (1005) SMD Capacitor)
pins: 1, 2

## 0402C_4.7pF_50V_0.25pF_NP0
designator C?, comment 4.7pF
Ceramic Capacitor 4.7pF ±0.25pF 50V C0G 0402; MPN: GRM1555C1H4R7CA01D; Mfg: Murata; Unit Cost, Qty 1: $0.10; Unit Cost, Qty 500: $0.013; Value: 4.7pF
footprint 0402_CAP_NP (0402 (1005) SMD Capacitor)
pins: 1, 2

## 0402C_4.7uF_10V
designator C?, comment 4.7uF
4.7µF ±20% 10V Ceramic Capacitor X5R 0402 (1005 Metric); MPN: CL05A475MP5NRNC; Mfg: Murata; Unit Cost, Qty 1: $0.10; Unit Cost, Qty 500: $0.013; Value: 4.7uF
footprint 0402_CAP_NP (0402 (1005) SMD Capacitor)
pins: 1, 2

## 0402C_5.6pF_50V_0.25pF_NP0
designator C?, comment 5.6pF
Ceramic Capacitor 5.6pF ±0.25pF 50V C0G 0402; MPN: GRM1555C1H5R6CA01D; Mfg: Murata; Unit Cost, Qty 1: $0.10; Unit Cost, Qty 500: $0.013; Value: 5.6pF
footprint 0402_CAP_NP (0402 (1005) SMD Capacitor)
pins: 1, 2

## 0402C_5.9pF_50V_0.1pF_NP0
designator C?, comment 5.9pF
Ceramic Capacitor 5.9pF ±0.1pF 50V C0G 0402; MPN: CBR04C599B5GAC; Mfg: Kemet; Unit Cost, Qty 1: $0.22; Unit Cost, Qty 500: $0.051; Value: 5.9pF
footprint 0402_CAP_NP (0402 (1005) SMD Capacitor)
pins: 1, 2

## 0402C_6.8pF_50V_0.1pF_NP0_RF
designator C?, comment 6.8pF
CAP CER 6.8PF 50V C0G/NP0 0402; MPN: 500R07S6R8BV4T; Mfg: Johanson Technology Inc.; Unit Cost, Qty 1: $0.10; Unit Cost, Qty 500: $0.013; Value: 6.8pF
footprint 0402_CAP_RF (0402 (1005) SMD Capacitor)
pins: 1, 2

## 0402C_7.2pF_50V_0.1pF_NP0
designator C?, comment 7.2pF
Ceramic Capacitor 7.2pF ±0.1pF 50V C0G 0402; MPN: CBR04C729B5GAC; Mfg: Kemet; Unit Cost, Qty 1: $0.22; Unit Cost, Qty 500: $0.051; Value: 7.2pF
footprint 0402_CAP_NP (0402 (1005) SMD Capacitor)
pins: 1, 2

## 0402C_8.2pF_50V_0.25pF_NP0
designator C?, comment 8.2pF
Ceramic Capacitor 8.2pF ±0.25pF 50V C0G 0402; MPN: GRM1555C1H8R2CA01D; Mfg: Murata; Unit Cost, Qty 1: $0.10; Unit Cost, Qty 500: $0.00388; Value: 8.2pF
footprint 0402_CAP_NP (0402 (1005) SMD Capacitor)
pins: 1, 2

## 0402C_10nF_16V_10%_X7R
designator C?, comment 10nF
±10% 16V Ceramic Capacitor X7R 0402 (1005 Metric); MPN: AC0402KRX7R7BB103; Mfg: Yageo; Unit Cost, Qty 1: $0.10; Unit Cost, Qty 500: $0.018; Value: 10nF
footprint 0402_CAP_NP (0402 (1005) SMD Capacitor)
pins: 1, 2

## 0402C_10pF_50V_5%_NP0
designator C?, comment 10pF
Ceramic Capacitor 10pF ±5% 50V NP0 0402; MPN: GRM1555C1H100JA01D; Mfg: Murata; Unit Cost, Qty 1: $0.10; Unit Cost, Qty 500: $0.00388; Value: 10pF
footprint 0402_CAP_NP (0402 (1005) SMD Capacitor)
pins: 1, 2

## 0402C_10uF_10V
designator C?, comment 10uF
CAP CER 10UF 10V X5R 0402; MPN: CL05A106MP8NUB8; Mfg: Samsung Electro-Mechanics; Unit Cost, Qty 1: $0.10; Unit Cost, Qty 500: $0.013; Value: 10uF
footprint 0402_CAP_NP (0402 (1005) SMD Capacitor)
pins: 1, 2

## 0402C_12pF_50V_5%_NP0
designator C?, comment value 12pF  (hidden comment: 15pF)
CAP CER 12PF 50V C0G/NP0 0402; MPN: CL05C120JB5NNNC; Mfg: Samsung Electro-Mechanics; Unit Cost, Qty 1: $0.10; Unit Cost, Qty 500: $0.00442
footprint 0402_CAP_NP (0402 (1005) SMD Capacitor)
pins: 1, 2

## 0402C_15pF_50V_1%_NP0
designator C?, comment 15pF
Ceramic Capacitor 15pF ±5% 50V NP0 0402; MPN: GJM1555C1H150FB01D; Mfg: Murata; Unit Cost, Qty 1: $0.10; Unit Cost, Qty 500: $0.00442; Value: 15pF
footprint 0402_CAP_NP (0402 (1005) SMD Capacitor)
pins: 1, 2

## 0402C_18pF_50V_5%_NP0
designator C?, comment 18pF
Ceramic Capacitor 18pF ±5% 50V NP0 0402; MPN: 04025A180JAT2A; Mfg: AVX; Unit Cost, Qty 1: $0.16; Unit Cost, Qty 500: $0.039; Value: 18pF
footprint 0402_CAP_NP (0402 (1005) SMD Capacitor)
pins: 1, 2

## 0402C_20pF_50V_5%_NP0
designator C?, comment 20pF
20 pF ±5% 50V Ceramic Capacitor C0G, NP0 0402 (1005 Metric); MPN: GRM1555C1H200JA01D; Mfg: Murata; Unit Cost, Qty 1: $0.10; Unit Cost, Qty 500: $0.00388; Component Description: 20 pF ±5% 50V Ceramic Capacitor C0G, NP0 0402 (1005 Metric); Value: 20pF
footprint 0402_CAP_NP (0402 (1005) SMD Capacitor)
pins: 1, 2

## 0402C_22pF_50V_5%_C0G
designator C?, comment 22pF
CAP CER 22PF 50V C0G/NP0 0402; MPN: GRM1555C1H220JA01D; Mfg: Murata; Tolerance: ±5%; TemperatureRange: -55°C ~ 125°C; Value: 22pF
footprint 0402_CAP_NP (0402 (1005) SMD Capacitor)
pins: 1, 2

## 0402C_22pF_50V_5%_NP0
designator C?, comment 22pF
CAP CER 22PF 50V NP0 0402; MPN: GRM1555C1H220JA01J; Mfg: Murata; Component Description: Ceramic Capacitor 22pF ±5% 50V C0G, NP0 0402; Unit Cost, Qty 1: $0.10; Unit Cost, Qty 500: $0.00388; Value: 22pF
footprint 0402_CAP_NP (0402 (1005) SMD Capacitor)
pins: 1, 2

## 0402C_27pF_50V_5%_NP0
designator C?, comment 27pF
Ceramic Capacitor 27pF ±5% 50V C0G, NP0 0402; MPN: C0402C270J5GACTU; Mfg: KEMET; Unit Cost, Qty 1: $0.10; Unit Cost, Qty 500: $0.0124; Value: 27pF
footprint 0402_CAP_NP (0402 (1005) SMD Capacitor)
pins: 1, 2

## 0402C_30pF_50V_5%_NP0
designator C?, comment 30pF
Ceramic Capacitor 30pF ±5% 50V C0G, NP0 0402; MPN: C0402C300J5GACTU; Mfg: KEMET; Unit Cost, Qty 1: $0.38; Unit Cost, Qty 500: $0.12; Value: 30pF
footprint 0402_CAP_NP (0402 (1005) SMD Capacitor)
pins: 1, 2

## 0402C_33pF_50V_2%_C0G
designator C?, comment 33pF
Ceramic Capacitor 33pF ±2% 50V C0G 0402; MPN: GRM1555C1H330GA01D; Mfg: Murata; Unit Cost, Qty 1: $0.38; Unit Cost, Qty 500: $0.12; Value: 33pF
footprint 0402_CAP_NP (0402 (1005) SMD Capacitor)
pins: 1, 2

## 0402C_47pF_50V_1%_NP0
designator C?, comment 47pF
Ceramic Capacitor 47pF ±1% 50V NP0 0402; MPN: GRM1555C1H470FA01D; Mfg: Murata; Unit Cost, Qty 1: $0.10; Unit Cost, Qty 500: $0.016; Value: 47pF
footprint 0402_CAP_NP (0402 (1005) SMD Capacitor)
pins: 1, 2

## 0402C_56pF_50V_5%_NP0
designator C?, comment 56pF
CAP CER 56PF 50V NP0 0402; MPN: GRM1555C1H560JA01D; Mfg: Murata; Component Description: Ceramic Capacitor56pF ±5% 50V NP0 0402; Unit Cost, Qty 1: $0.10; Unit Cost, Qty 500: $0.00388; Value: 56pF
footprint 0402_CAP_NP (0402 (1005) SMD Capacitor)
pins: 1, 2

## 0402C_82pF_50V_5%_NP0
designator C?, comment value 82pF  (hidden comment: 8.2pF)
CAP CER 82PF 50V C0G/NP0 0402; MPN: GCM1555C1H820JA16D; Mfg: Murata; Unit Cost, Qty 1: $0.10; Unit Cost, Qty 500: $0.00388
footprint 0402_CAP_NP (0402 (1005) SMD Capacitor)
pins: 1, 2

## 0402C_100pF_50V_NP0_1
designator C?, comment 100pF
CAP CER 100PF 50V NP0 0402; MPN: GCM1555C1H101JA16D; Component Description: Capacitor 100pF ±5% 50V NP0 SMD 0402; Mfg: Murata; Unit Cost, Qty 1: $0.10; Unit Cost, Qty 500: $0.00442; Value: 100pF
footprint 0402_CAP_NP (0402 (1005) SMD Capacitor)
pins: 1, 2

## 0402C_120pF_50V_5%_NP0
designator C?, comment 120pF
CAP CER 120PF 50V +/-5% NP0 0402; MPN: GCM1555C1H121JA16D; Mfg: Murata; Unit Cost, Qty 1: $0.10; Unit Cost, Qty 500: $0.02322; Value: 120pF
footprint 0402_CAP_NP (0402 (1005) SMD Capacitor)
pins: 1, 2

## 0402C_220pF_50V_NP0
designator C?, comment 220pF
CAP CER 220PF 50V NP0 0402; MPN: GRM1555C1H221JA01D; Component Description: Capacitor 220pF ±5% 50V NP0 SMD 0402; Mfg: Murata; Unit Cost, Qty 1: $0.10; Unit Cost, Qty 500: $0.00622; Value: 220pF
footprint 0402_CAP_NP (0402 (1005) SMD Capacitor)
pins: 1, 2

## 0402C_300pF_50V_5%_NP0
designator C?, comment 300pF
CAP CER 300PF 50V C0G/NP0 0402; MPN: 0402N301J500CT; Mfg: Walsin Technology Corporation; Unit Cost, Qty 1: $0.38; Unit Cost, Qty 500: $0.12; Value: 300pF
footprint 0402_CAP_NP (0402 (1005) SMD Capacitor)
pins: 1, 2

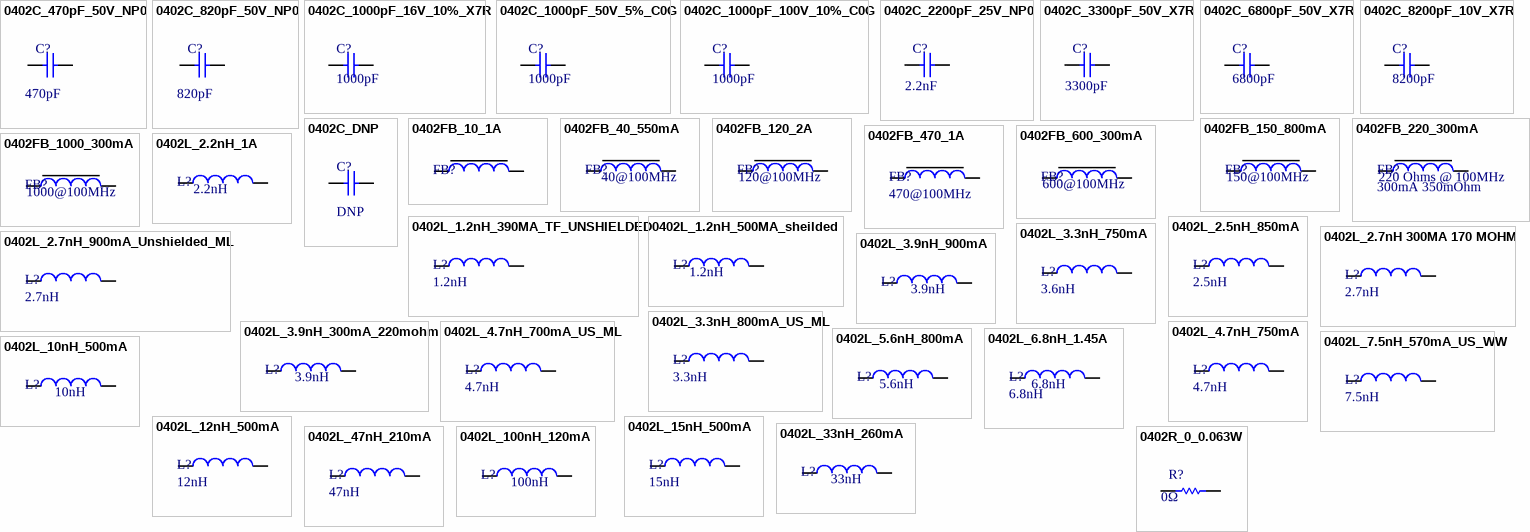
[diagram p3: symbols 0402C_470pF_50V_NP0 to 0402R_0_0.063W]

## 0402C_470pF_50V_NP0
designator C?, comment 470pF
Capacitor 470pF ±5% 50V NP0 SMD 0402; MPN: GRM1555C1H471JA01D; Mfg: Murata; Unit Cost, Qty 1: $0.10; Unit Cost, Qty 500: $0.0093; Value: 470pF
footprint 0402_CAP_NP (0402 (1005) SMD Capacitor)
pins: 1, 2

## 0402C_820pF_50V_NP0
designator C?, comment 820pF
CAP CER 820PF 50V C0G/NP0 0402; MPN: CL05C821JB5NNNC; Mfg: Samsung Electro-Mechanics; Unit Cost, Qty 1: $0.10; Unit Cost, Qty 500: $0.0093; Value: 820pF
footprint 0402_CAP_NP (0402 (1005) SMD Capacitor)
pins: 1, 2

## 0402C_1000pF_16V_10%_X7R
designator C?, comment 1000pF
1000 pF ±10% 16V Ceramic Capacitor X7R 0402 (1005 Metric); MPN: CC0402KRX7R7BB102; Mfg: YAGEO; Unit Cost, Qty 1: $0.10; Unit Cost, Qty 500: $0.018; Value: 1000pF
footprint 0402_CAP_NP (0402 (1005) SMD Capacitor)
pins: 1, 2

## 0402C_1000pF_50V_5%_C0G
designator C?, comment 1000pF
Ceramic Capacitor 1000pF ±5% 50V C0G 0402; MPN: CL05C102JB5NNNC; Mfg: Samsung; Unit Cost, Qty 1: $0.10; Unit Cost, Qty 500: $0.018; Value: 1000pF
footprint 0402_CAP_NP (0402 (1005) SMD Capacitor)
pins: 1, 2

## 0402C_1000pF_100V_10%_C0G
designator C?, comment 1000pF
Ceramic Capacitor 1000pF 10% 100V C0G 0402; MPN: C0402C102J1GACAUTO; Mfg: Kemet; Unit Cost, Qty 1: $0.36; Unit Cost, Qty 500: $0.114; Value: 1000pF
footprint 0402_CAP_NP (0402 (1005) SMD Capacitor)
pins: 1, 2

## 0402C_2200pF_25V_NP0
designator C?, comment 2.2nF
CAP CER 2200PF 25V NP0 0402; MPN: C0402C222J3GACTU; Component Description: Capacitor 2200pF ±5% 25V NP0 0402; Mfg: Kemet; Unit Cost, Qty 1: $0.37; Unit Cost, Qty 500: $0.11442; Value: 2.2nF
footprint 0402_CAP_NP (0402 (1005) SMD Capacitor)
pins: 1, 2

## 0402C_3300pF_50V_X7R
designator C?, comment 3300pF
CAP CER 3300PF 50V X7R 0402; MPN: CC0402JRX7R9BB332; Mfg: Yageo; Unit Cost, Qty 1: $0.10; Unit Cost, Qty 500: $0.01294; Value: 3300pF
footprint 0402_CAP_NP (0402 (1005) SMD Capacitor)
pins: 1, 2

## 0402C_6800pF_50V_X7R
designator C?, comment 6800pF
CAP CER 6800PF 50V X7R 0402; MPN: CC0402KRX7R9BB682; Mfg: Yageo; Unit Cost, Qty 1: $0.10; Unit Cost, Qty 500: $0.00966; Value: 6800pF
footprint 0402_CAP_NP (0402 (1005) SMD Capacitor)
pins: 1, 2

## 0402C_8200pF_10V_X7R
designator C?, comment 8200pF
CAP CER 8200PF 10V X7R 0402; MPN: GRM033R71A822KA01D; Mfg: Murata; Unit Cost, Qty 1: $0.10; Unit Cost, Qty 500: $0.0093; Value: 8200pF
footprint 0402_CAP_NP (0402 (1005) SMD Capacitor)
pins: 1, 2

## 0402C_DNP
designator C?, comment DNP
DBP; Populate: DNP; MPN: DNP; Value: DNP
footprint 0402_CAP_NP (0402 (1005) SMD Capacitor)
pins: 1, 2

## 0402FB_10_1A
designator FB?, comment 10@100MHz  (value not drawn)
Ferrite Bead 10ohm@100MHz 1A 0402; MPN: BLM15AG100SN1D; Mfg: Murata; Unit Cost, Qty 1: $0.10; Unit Cost, Qty 500: $0.029; Value: 10@100MHz
footprint 0402_FB (0402 (1005) SMD Ferrite Bead)
pins: 1, 2

## 0402FB_40_550mA
designator FB?, comment value 40@100MHz  (hidden comment: Ferrite bead)
Ferrite Bead 40 ohm 0402; MPN: MMZ1005Y400CT000; Mfg: TDK; Component Description: Ferrite Bead 40 ohm @ 100MHz 550mA 0402; Unit Cost, Qty 1: $0.10; Unit Cost, Qty 500: $0.029
footprint 0402_FB (0402 (1005) SMD Ferrite Bead)
pins: 1, 2

## 0402FB_120_2A
designator FB?, comment value 120@100MHz  (hidden comment: Ferrite bead 120@100MHz 2A)
Ferrite bead 120 ohm @100MHz 2A 55mOhm 0402; MPN: BLM15PX121SN1D; Mfg: Murata; Unit Cost, Qty 1: $0.15; Unit Cost, Qty 500: $0.0491
footprint 0402_FB (0402 (1005) SMD Ferrite Bead)
pins: 1, 2

## 0402FB_150_800mA
designator FB?, comment value 150@100MHz  (hidden comment: Ferrite bead)
Ferrite bead 150 ohm @100MHz 800mA 180mOhm 0402; MPN: MPZ1005A151ET000; Mfg: TDK; Unit Cost, Qty 1: $0.26; Unit Cost, Qty 500: $0.098
footprint 0402_FB (0402 (1005) SMD Ferrite Bead)
pins: 1, 2

## 0402FB_220_300mA
designator FB?, comment 300mA 350mOhm  value 220 Ohms @ 100MHz
220 Ohms @ 100MHz 1 Signal Line Ferrite Bead 0402 (1005 Metric) 300mA 350mOhm; MPN: 742792780; Mfg: Würth Elektronik; Unit Cost, Qty 1: $0.10; Unit Cost, Qty 500: $0.0291
footprint 0402_FB (0402 (1005) SMD Ferrite Bead)
pins: 1, 2

## 0402FB_470_1A
designator FB?, comment 470@100MHz
Ferrite bead 470 ohm @ 100MHz 1A 0402; MPN: BLM15PX471SN1D; Mfg: Murata; Unit Cost, Qty 1: $0.15; Unit Cost, Qty 500: $0.0491; Value: 470@100MHz
footprint 0402_FB (0402 (1005) SMD Ferrite Bead)
pins: 1, 2

## 0402FB_600_300mA
designator FB?, comment value 600@100MHz  (hidden comment: Ferrite bead)
Ferrite bead 600 ohm @100MHz 300mA 520mOhm 0402; MPN: BLM15AG601SN1D; Mfg: Murata; Unit Cost, Qty 1: $0.10; Unit Cost, Qty 500: $0.028
footprint 0402_FB (0402 (1005) SMD Ferrite Bead)
pins: 1, 2

## 0402FB_1000_300mA
designator FB?, comment value 1000@100MHz  (hidden comment: Ferrite bead)
Ferrite bead 1000 ohm @ 100MHz 300mA 0402; MPN: BLM15AG102SN1D; Mfg: Murata; Unit Cost, Qty 1: $0.10; Unit Cost, Qty 500: $0.0291
footprint 0402_FB (0402 (1005) SMD Ferrite Bead)
pins: 1, 2

## 0402L_1.2nH_390MA_TF_UNSHIELDED
designator L?, comment 1.2nH
FIXED IND 1.2NH 390MA 100MOHM +/-0.1nH UNSHIELDED THICK FILM; MPN: LQP15MN1N2B02D; Mfg: Murata; Unit Cost, Qty 1: $0.19; Unit Cost, Qty 500: $0.096; Value: 1.2nH
footprint 0402_IND _RF (0402 (1005) SMD Inductor)
pins: 1, 2

## 0402L_1.2nH_500MA_sheilded
designator L?, comment 1.2nH
FIXED IND 1.2NH 500MA 200 MOHM; MPN: MHQ0402PSA1N2BT000; Mfg: TDK Corporation; Unit Cost, Qty 1: $0.21; Unit Cost, Qty 500: $0.10; Value: 1.2nH
footprint 0402_IND _RF (0402 (1005) SMD Inductor)
pins: 1, 2

## 0402L_2.2nH_1A
designator L?, comment 2.2nH
Inductor 2.2nH 1A 27mohm 0402; MPN: LQW15AN2N2C10D; Mfg: Murata; Unit Cost, Qty 1: $0.21; Unit Cost, Qty 500: $0.10; Value: 2.2nH
footprint 0402_IND (0402 (1005) SMD Inductor)
pins: 1, 2

## 0402L_2.5nH_850mA
designator L?, comment 2.5nH
Inductor 2.5nH 850mA 50mohm 0402; MPN: LQW15AN2N5B00D; Mfg: Murata; Unit Cost, Qty 1: $0.19; Unit Cost, Qty 500: $0.094; Value: 2.5nH
footprint 0402_IND (0402 (1005) SMD Inductor)
pins: 1, 2

## 0402L_2.7nH 300MA 170 MOHM
designator L?, comment 2.7nH
FIXED IND 2.7NH 300MA 170 MOHM; MPN: L-07C2N7SV6T; Mfg: Johanson Technology Inc.; Unit Cost, Qty 1: $0.17; Unit Cost, Qty 500: $0.083; Value: 2.7nH
footprint 0402_IND (0402 (1005) SMD Inductor)
pins: 1, 2

## 0402L_2.7nH_900mA_Unshielded_ML
designator L?, comment 2.7nH
Inductor 2.7nH 900mA 70mOhm Unshielded Multilayer 0402; MPN: LQG15WZ2N7C02D; Mfg: Murata; Unit Cost, Qty 1: $0.17; Unit Cost, Qty 500: $0.083; Value: 2.7nH
footprint 0402_IND (0402 (1005) SMD Inductor)
pins: 1, 2

## 0402L_3.3nH_750mA
designator L?, comment 3.6nH
3.6 nH Unshielded Multilayer Inductor 750 mA 180mOhm Max 0402 (1005 Metric); MPN: LQG15HS3N6S02D; Mfg: Murata; Unit Cost, Qty 1: $0.10; Unit Cost, Qty 500: $0.034; Populate: 1; Value: 3.6nH
footprint 0402_IND (0402 (1005) SMD Inductor)
pins: 1, 2

## 0402L_3.3nH_800mA_US_ML
designator L?, comment 3.3nH
Inductor 3.3nH 800mA 190mohm +/-0.3nH Unshielded Multilayer   0402; MPN: LQG15HN3N3S02D; Mfg: Murata; Unit Cost, Qty 1: $0.10; Unit Cost, Qty 500: $0.034; Populate: 1; Value: 3.3nH
footprint 0402_IND (0402 (1005) SMD Inductor)
pins: 1, 2

## 0402L_3.9nH_300mA_220mohm
designator L?, comment 3.9nH
FIXED IND 3.9NH 300MA 220 MOHM; MPN: L-07C3N9SV6T; Mfg: Johanson Technology Inc.; Unit Cost, Qty 1: $0.20; Unit Cost, Qty 500: $0.0992; Value: 3.9nH
footprint 0402_IND (0402 (1005) SMD Inductor)
pins: 1, 2

## 0402L_3.9nH_900mA
designator L?, comment 3.9nH
Inductor 3.9nH 900mA 40mohm 0402; MPN: LQW15AN3N9D10D; Mfg: Murata; Unit Cost, Qty 1: $0.20; Unit Cost, Qty 500: $0.0992; Value: 3.9nH
footprint 0402_IND (0402 (1005) SMD Inductor)
pins: 1, 2

## 0402L_4.7nH_700mA_US_ML
designator L?, comment 4.7nH
Inductor 4.7nH 700mA 230mohm +/-0.3nH Unshielded Multilayer   0402; MPN: LQW15AN4N7C00D; Mfg: Murata; Unit Cost, Qty 1: $0.10; Unit Cost, Qty 500: $0.034; Populate: 1; Value: 4.7nH
footprint 0402_IND (0402 (1005) SMD Inductor)
pins: 1, 2

## 0402L_4.7nH_750mA
designator L?, comment 4.7nH
Inductor 4.7nH 750mA 70mohm 0402; MPN: LQW15AN4N7C00D; Mfg: Murata; Unit Cost, Qty 1: $0.18; Unit Cost, Qty 500: $0.091; Populate: 1; Value: 4.7nH
footprint 0402_IND (0402 (1005) SMD Inductor)
pins: 1, 2

## 0402L_5.6nH_800mA
designator L?, comment 5.6nH
Inductor 5.6nH 800mA 51mohm 0402; MPN: LQW15AN5N6D10D; Mfg: Murata; Unit Cost, Qty 1: $0.20; Unit Cost, Qty 500: $0.0992; Value: 5.6nH
footprint 0402_IND (0402 (1005) SMD Inductor)
pins: 1, 2

## 0402L_6.8nH_1.45A
designator L?, comment 6.8nH
Inductor 6.8nH 1.45A 68mohm 0402; MPN: LQW15AN6N8G80D; Mfg: Murata; Unit Cost, Qty 1: $0.25; Unit Cost, Qty 500: $0.13; Value: 6.8nH
footprint 0402_IND (0402 (1005) SMD Inductor)
pins: 1, 2

## 0402L_7.5nH_570mA_US_WW
designator L?, comment 7.5nH
Inductor 7.5nH 570mA 130mohm Unshielded Wirewound 0402; MPN: LQW15AN7N5J00D; Mfg: Murata; Unit Cost, Qty 1: $0.17; Unit Cost, Qty 500: $0.086; Value: 7.5nH
footprint 0402_IND (0402 (1005) SMD Inductor)
pins: 1, 2

## 0402L_10nH_500mA
designator L?, comment 10nH
Inductor 10nH 500mA 170mohm 0402; MPN: LQW15AN10NJ00D; Mfg: Murata; Unit Cost, Qty 1: $0.17; Unit Cost, Qty 500: $0.086; Value: 10nH
footprint 0402_IND (0402 (1005) SMD Inductor)
pins: 1, 2

## 0402L_12nH_500mA
designator L?, comment 12nH
Inductor 12nH 500mA 140mohm 0402; MPN: LQW15AN12NH00D; Mfg: Murata; Unit Cost, Qty 1: $0.18; Unit Cost, Qty 500: $0.09; Value: 12nH
footprint 0402_IND (0402 (1005) SMD Inductor)
pins: 1, 2

## 0402L_15nH_500mA
designator L?, comment 15nH
FIXED IND 15NH 450MA 320 MOHM; MPN: LQG15HS15NH02D; Mfg: Murata; Unit Cost, Qty 1: $0.18; Unit Cost, Qty 500: $0.09; Value: 15nH
footprint 0402_IND (0402 (1005) SMD Inductor)
pins: 1, 2

## 0402L_33nH_260mA
designator L?, comment 33nH
Inductor 33nH 260mA 630mohm 0402; MPN: LQW15AN33NJ00D; Mfg: Murata; Unit Cost, Qty 1: $0.17; Unit Cost, Qty 500: $0.086; Value: 33nH
footprint 0402_IND (0402 (1005) SMD Inductor)
pins: 1, 2

## 0402L_47nH_210mA
designator L?, comment 47nH
Inductor 47nH 210mA 1.08ohm 0402; MPN: LQW15AN47NJ00D; Mfg: Murata; Unit Cost, Qty 1: $0.17; Unit Cost, Qty 500: $0.086; Value: 47nH
footprint 0402_IND (0402 (1005) SMD Inductor)
pins: 1, 2

## 0402L_100nH_120mA
designator L?, comment 100nH
Inductor 100nH 120mA 2.52ohm 0402; MPN: LQW15ANR10J00D; Mfg: Murata; Unit Cost, Qty 1: $0.17; Unit Cost, Qty 500: $0.086; Value: 100nH
footprint 0402_IND (0402 (1005) SMD Inductor)
pins: 1, 2

## 0402R_0_0.063W
designator R?, comment 0Ω
RES SMD 0.0OHM JUMPER 1/16W 0402; MPN: RC0402JR-070RP; Component Description: Resistor 0.0 Ohm Jumper 0.063W 0402; Mfg: Yageo; Unit Cost, Qty 1: $0.10; Unit Cost, Qty 500: $0.00234; Value: 0Ω
footprint 0402_RES (0402 (1005) SMD Resistor)
pins: 1, 2

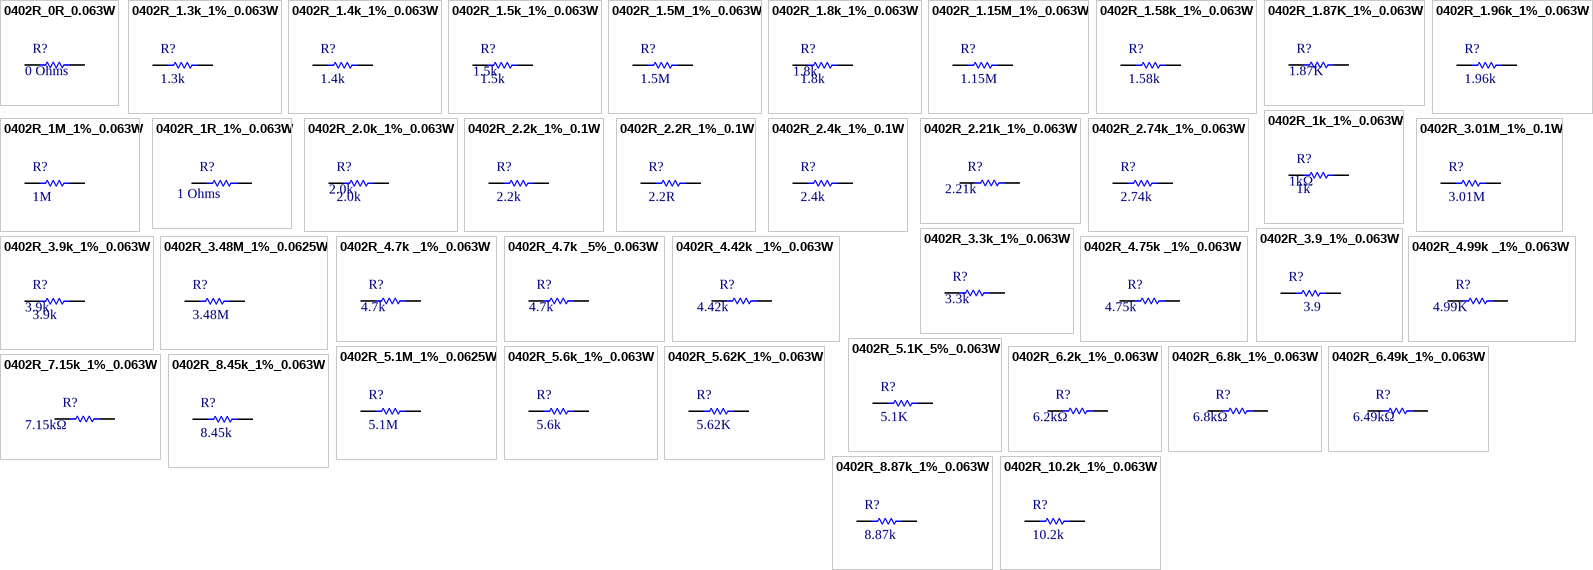
[diagram p4: symbols 0402R_0R_0.063W to 0402R_10.2k_1%_0.063W]

## 0402R_0R_0.063W
designator R?, comment value 0 Ohms  (hidden comment: 0R)
RES SMD 0 OHM JUMPER 1/10W 0402; MPN: ERJ-2GE0R00X; Mfg: Panasonic Electronic Components; TemperatureRange: -55°C ~ 155°C
footprint 0402_RES (0402 (1005) SMD Resistor)
pins: 1, 2

## 0402R_1.3k_1%_0.063W
designator R?, comment 1.3k
Resistor 1.3k Ohm ±1% 0.063W 0402; MPN: RC0402FR-071K3L; Mfg: Yageo; Unit Cost, Qty 1: $0.10; Unit Cost, Qty 500: $0.00298; Value: 1.3k
footprint 0402_RES (0402 (1005) SMD Resistor)
pins: 1, 2

## 0402R_1.4k_1%_0.063W
designator R?, comment 1.4k
RES SMD 1.4K OHM 1% 1/16W 0402; MPN: CRCW04021K40FKED; Mfg: Vishay Dale; TemperatureRange: -55°C ~ 155°C; Tolerance: ±1%; Value: 1.4k
footprint 0402_RES (0402 (1005) SMD Resistor)
pins: 1, 2

## 0402R_1.5k_1%_0.063W
designator R?, comment 1.5k
Resistor 1.5k Ohm ±1% 0.063W 0402; MPN: RC0402FR-071K5L; Mfg: Yageo; Unit Cost, Qty 1: $0.10; Unit Cost, Qty 500: $0.00298; Value: 1.5k
footprint 0402_RES (0402 (1005) SMD Resistor)
pins: 1, 2

## 0402R_1.5M_1%_0.063W
designator R?, comment 1.5M
RES SMD 1.5M OHM 1% 1/16W 0402; MPN: AC0402FR-071M5L; Mfg: Yageo; Unit Cost, Qty 1: $0.10; Unit Cost, Qty 500: $0.003; Value: 1.5M
footprint 0402_RES (0402 (1005) SMD Resistor)
pins: 1, 2

## 0402R_1.8k_1%_0.063W
designator R?, comment 1.8k
Resistor 1.8k Ohm ±1% 0.063W 0402; MPN: RC0402FR-071K8L; Mfg: Yageo; Unit Cost, Qty 1: $0.10; Unit Cost, Qty 500: $0.00298; Value: 1.8k
footprint 0402_RES (0402 (1005) SMD Resistor)
pins: 1, 2

## 0402R_1.15M_1%_0.063W
designator R?, comment 1.15M
RES SMD 1.15M OHM 1% 1/16W 0402; MPN: RMCF0402FT1M15; Mfg: Stackpole; Unit Cost, Qty 1: $0.10; Unit Cost, Qty 500: $0.0078; Value: 1.15M
footprint 0402_RES (0402 (1005) SMD Resistor)
pins: 1, 2

## 0402R_1.58k_1%_0.063W
designator R?, comment 1.58k
Resistor 1.58k Ohm ±1% 0.063W 0402; MPN: RC0402FR-071K58L; Mfg: Yageo; Unit Cost, Qty 1: $0.10; Unit Cost, Qty 500: $0.00298; Value: 1.58k
footprint 0402_RES (0402 (1005) SMD Resistor)
pins: 1, 2

## 0402R_1.87K_1%_0.063W
designator R?, comment 1.87K
1.87 kOhms ±1% 0.063W, 1/16W Chip Resistor 0402 (1005 Metric) Moisture Resistant Thick Film; MPN: RC0402FR-071K87L; Mfg: Yageo; Unit Cost, Qty 1: $0.10; Unit Cost, Qty 500: $0.00298; Value: 1.87K
footprint 0402_RES (0402 (1005) SMD Resistor)
pins: 1, 2

## 0402R_1.96k_1%_0.063W
designator R?, comment 1.96k
Resistor 1.96k Ohm ±1% 0.063W 0402; MPN: RMCF0402FT1K96; Mfg: Stackpole; Unit Cost, Qty 1: $0.10; Unit Cost, Qty 500: $0.0058; Value: 1.96k
footprint 0402_RES (0402 (1005) SMD Resistor)
pins: 1, 2

## 0402R_1k_1%_0.063W
designator R?, comment 1k  value 1kΩ
RES SMD 1K OHM 1% 1/16W 0402; MPN: RC0402JR-071KL; Mfg: Yageo; Unit Cost, Qty 1: $0.10; Unit Cost, Qty 500: $0,00298
footprint 0402_RES (0402 (1005) SMD Resistor)
pins: 1, 2

## 0402R_1M_1%_0.063W
designator R?, comment 1M
RES SMD 1M OHM 1% 1/16W 0402; MPN: RC0402FR-071ML; Mfg: Yageo; Unit Cost, Qty 1: $0.10; Unit Cost, Qty 500: $0.00298; Value: 1M
footprint 0402_RES (0402 (1005) SMD Resistor)
pins: 1, 2